# Altium schematic symbol library NodeController.SCHLIB: 13 symbols
Pins are listed as number, name and electrical type; pins without a type are passive.

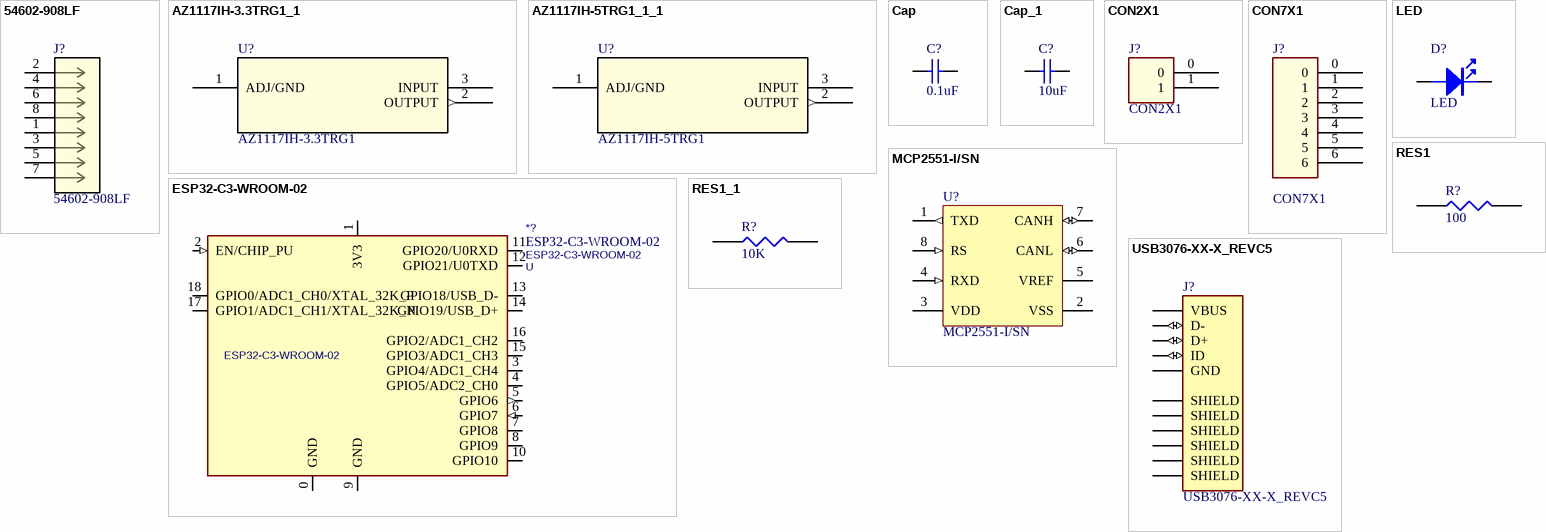
[diagram p0: symbols 54602-908LF to USB3076-XX-X_REVC5]

## 54602-908LF
designator J?
No Description Available; Mfr_Name: Amphenol ICC; Copyright: Copyright (C) 2024 Ultra Librarian. All rights reserved.; Manufacturer_Part_Number: 54602-908LF; RefDes: RefDes; Type: DEV
footprint CONN8_2-908LF_AMP
footprint AMPHENOL_54602-908LF
pins: 1, 2, 3, 4, 5, 6, 7, 8

## AZ1117IH-3.3TRG1_1
designator U?, comment AZ1117IH-3.3TRG1
No Description Available; Mfr_Name: Diodes Inc; RefDes: RefDes; Type: Type
footprint SOT223_AZ1117I_6P5X3P5_DIO
footprint SOT230P700X185-4N
footprint SOT230P700X185-4N
pins: 1 ADJ/GND (power), 2 OUTPUT (out), 3 INPUT

## AZ1117IH-5TRG1_1_1
designator U?, comment AZ1117IH-5TRG1
No Description Available; Mfr_Name: Diodes Inc; RefDes: RefDes; Type: Type
footprint SOT223_AZ1117I_6P5X3P5_DIO
footprint SOT230P700X185-4N
footprint SOT230P700X185-4N
pins: 1 ADJ/GND (power), 2 OUTPUT (out), 3 INPUT

## Cap
designator C?, comment 0.1uF
Capacitor; Value: 100pF; Published: 8-Jun-2000; LatestRevisionDate: 17-Jul-2002; LatestRevisionNote: Re-released for DXP Platform.; PackageReference: RAD-0.3; Publisher: Altium Limited; PackageDescription: Radial Cap, Thru-Hole; 2 Leads; 0.3 in Pin Spacing
footprint Resistor/Cap-1206
pins: 1, 2

## Cap_1
designator C?, comment 10uF
Capacitor; Value: 100pF; Published: 8-Jun-2000; LatestRevisionDate: 17-Jul-2002; LatestRevisionNote: Re-released for DXP Platform.; PackageReference: RAD-0.3; Publisher: Altium Limited; PackageDescription: Radial Cap, Thru-Hole; 2 Leads; 0.3 in Pin Spacing
footprint Resistor/Cap-1206
pins: 1, 2

## CON2X1
designator J?
footprint CON2X1 (2.54mm based header)
pins: 0, 1

## CON7X1
designator J?
footprint CON7X1 (2.54mm based header)
pins: 0, 1, 2, 3, 4, 5, 6

## ESP32-C3-WROOM-02
designator *?  Reference: U
ki_keywords: esp32-c3 module; ki_description: ESP32-C3-WROOM-02 is a general-purpose Wi-Fi and Bluetooth LE module. This module features a rich set of peripherals and high performance, which makes it an ideal choice for smart home, industrial automation, health care, consumer electronics, etc.; Footprint: PCM_Espressif:ESP32-C3-WROOM-02; Datasheet: https://www.espressif.com/sites/default/files/documentation/esp32-c3-wroom-02_datasheet_en.pdf; Value: ESP32-C3-WROOM-02
footprint MODULE_ESP32-C3-WROOM-02-H4
pins: 0 GND, 1 3V3 (power), 2 EN/CHIP_PU (in), 3 GPIO4/ADC1_CH4 (io), 4 GPIO5/ADC2_CH0 (io), 5 GPIO6 (out), 6 GPIO7 (in), 7 GPIO8 (io), 8 GPIO9 (io), 9 GND hidden, 9 GND (power), 10 GPIO10 (io), 11 GPIO20/U0RXD (io), 12 GPIO21/U0TXD (io), 13 GPIO18/USB_D- (io), 14 GPIO19/USB_D+ (io), 15 GPIO3/ADC1_CH3 (io), 16 GPIO2/ADC1_CH2 (io), 17 GPIO1/ADC1_CH1/XTAL_32K_N (io), 18 GPIO0/ADC1_CH0/XTAL_32K_P (io)

## LED
designator D?
Light Emitting Diode LED
footprint LED-1206
pins: A, K

## MCP2551-I/SN
designator U?
High-Speed CAN Transceiver, / 1 Mb/s, 4.5 to 5.5 V, 8-Pin SOIC (SN), Industrial Temperature, RoHS, Tube; Manufacturer: Microchip; RoHSCompliant: true; PackageReference: SN8; ComponentLink1URL: http://www.microchip.com/; DatasheetVersion: Rev. F, 07/2010; ComponentLink2Description: Datasheet; ComponentLink2URL: http://ww1.microchip.com/downloads/en/DeviceDoc/21667f.pdf; ComponentLink3Description: Package Specification; PackageDescription: 8-Pin Small Outline Integrated Circuit, Body 4.9 x 3.9 mm, Pitch 1.27 mm; ComponentLink1Description: Manufacturer URL; Mounting Technology: Surface Mount; ComponentLink3URL: http://www.microchip.com/stellent/groups/techpub_sg/documents/packagingspec/en012702.pdf
footprint MCHP-SN8_V (SOIC, 8-Leads, Body 4.9x3.9mm, Pitch 1.27mm)
footprint MCP2551 (SOIC, 8-Leads, Body 4.9x3.9mm, Pitch 1.27mm)
pins: 1 TXD (out) "Transmit Data Input", 2 VSS (power) "Ground", 3 VDD (power) "Supply Voltage", 4 RXD (in) "Receive Data Output", 5 VREF (power) "Reference Output Voltage", 6 CANL (io) "CAN Low-Level Voltage I/O", 7 CANH (io) "CAN High-Level Voltage I/O", 8 RS (in) "Slope-Control Input"

## RES1
designator R?, comment 100
Resistor
footprint Resistor/Cap-1206
pins: 1, 2

## RES1_1
designator R?, comment 10K
Resistor
footprint AXIAL0.5
pins: 1, 2

## USB3076-XX-X_REVC5
designator J?
USB - micro B USB 2.0 Receptacle Connector 5 Position Surface Mount, Right Angle; Through Hole, 2.35mm profile, 5 Pins, Horizontal, Bottom mount; MP: USB3076-30-A; MF: Global Connector Technology; SnapEDA_Link: https://www.snapeda.com/parts/USB3076-30-A/Global+Connector+Technology/view-part/?ref=snap; Package: None; Check_prices: https://www.snapeda.com/parts/USB3076-30-A/Global+Connector+Technology/view-part/?ref=eda; Purchase-URL: https://pricing.snapeda.com/search/part/USB3076-30-A/?ref=eda; Price: None; Value: *; Availability: In Stock
footprint GCT_USB3076-XX-X_REVC5
footprint GCT_USB3076-XX-X_REVC5
pins: 1 VBUS (power), 2 D- (io), 3 D+ (io), 4 ID (io), 5 GND (power), 6 SHIELD (power), 7 SHIELD (power), 8 SHIELD (power), 9 SHIELD (power), 10 SHIELD (power), 11 SHIELD (power)